# Altium footprint library bms.PcbLib: 20 footprints (part 1 of 2)
Each footprint in its own frame and in the unit in brackets; x right, y up, seen from the top. Pads: shape width x height; smd on the part's side, far side on the other; paste and mask are expansions set on the pad; w line width, h text height; cw(c..) or ccw(c..) is an arc to the next point about the centre after c.
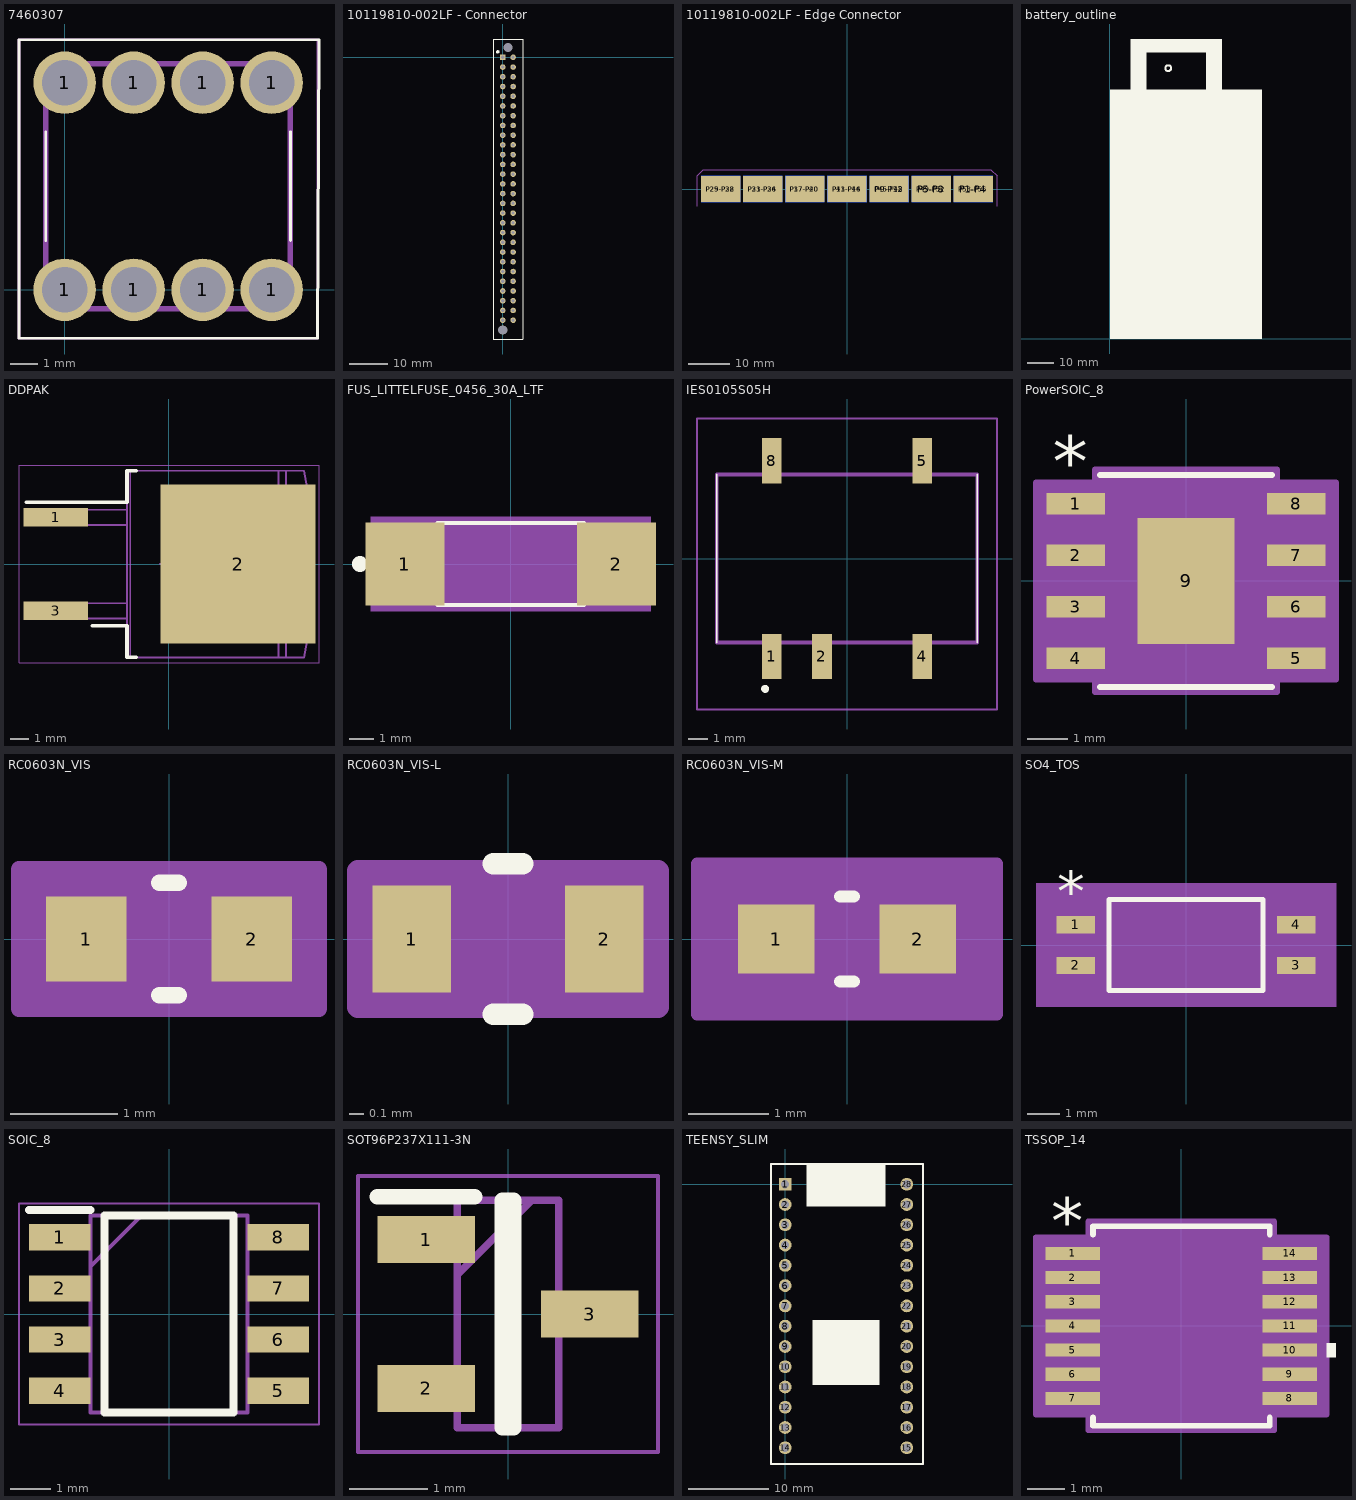
[diagram p0: the footprints below, top view; thin cyan lines are the x and y axes]

## 7460307 [mm]
pads (8):
  round 2.3 hole 1.675: 1(0,0) 1(0,7.62) 1(2.54,0) 1(2.54,7.62) 1(5.08,0) 1(5.08,7.62) 1(7.62,0) 1(7.62,7.62)
Top Overlay:
  lines w0.1: -0.69,1.81 -0.69,5.81 ; 8.31,1.81 8.31,5.81 ; -1.676,-1.778 9.309,-1.778 9.361,9.195 -1.676,9.195 -1.676,-1.778
Mechanical 13:
  lines w0.2: -0.69,-0.69 8.31,-0.69 8.31,8.31 -0.69,8.31 -0.69,-0.69
Mechanical 15:
  lines w0.1: -1.676,-1.778 9.313,-1.778 9.313,9.195 -1.676,9.195 -1.676,-1.778
3D body "7460307_Download_STP_7460307_rev1.stp": height 7, standoff -3.5, extent -0.69,-0.69 8.31,8.31

## 10119810-002LF - Connector [mm]
pads (58):
  round 0 hole 2.4 unplated: M1(1.35,2.54) M2(0,-71.12)
  rect 1.45x1.45 hole 0.85: P1(0,0)
  round 1.45 hole 0.85: P2(0,-2.54) P3(0,-5.08) P4(0,-7.62) P5(0,-10.16) P6(0,-12.7) P7(0,-15.24) P8(0,-17.78) P9(0,-20.32) P10(0,-22.86) P11(0,-25.4) P12(0,-27.94) P13(0,-30.48) P14(0,-33.02) P15(0,-35.56) P16(0,-38.1) P17(0,-40.64) P18(0,-43.18) P19(0,-45.72) P20(0,-48.26) P21(0,-50.8) P22(0,-53.34) P23(0,-55.88) P24(0,-58.42) P25(0,-60.96) P26(0,-63.5) P27(0,-66.04) P28(0,-68.58) P29(2.7,-68.58) P30(2.7,-66.04) P31(2.7,-63.5) P32(2.7,-60.96) P33(2.7,-58.42) P34(2.7,-55.88) P35(2.7,-53.34) P36(2.7,-50.8) P37(2.7,-48.26) P38(2.7,-45.72) P39(2.7,-43.18) P40(2.7,-40.64) P41(2.7,-38.1) P42(2.7,-35.56) P43(2.7,-33.02) P44(2.7,-30.48) P45(2.7,-27.94) P46(2.7,-25.4) P47(2.7,-22.86) P48(2.7,-20.32) P49(2.7,-17.78) P50(2.7,-15.24) P51(2.7,-12.7) P52(2.7,-10.16) P53(2.7,-7.62) P54(2.7,-5.08) P55(2.7,-2.54) P56(2.7,0)
Top Overlay:
  circle w0.762: c-1.295,1.448 r0.072
  lines w0.2: -2.54,-73.482 5.283,-73.482 5.283,4.775 -2.54,4.775 -2.54,-73.482
3D body "10119810-002lf.stp": height 15.69, standoff -3.8, extent -2.235,-73.128 5.015,4.572

## 10119810-002LF - Edge Connector [mm]
pads (14):
  rect 9.46x6.3 smd: P1-P4(30.48,0) P5-P8(20.32,0) P9-P12(10.16,0) P13-P16(0,0) P17-P20(-10.16,0) P21-P24(-20.32,0) P25-P28(-30.48,0)
  rect 9.46x6.3 smd far side: P29-P32(-30.48,0) P33-P36(-20.32,0) P37-P40(-10.16,0) P41-P44(0,0) P45-P48(10.16,0) P49-P52(20.32,0) P53-P56(30.48,0)
Mechanical 1:
  lines w0.2: -36.2,-4.15 -36.2,3.15 ; 36.2,-4.15 36.2,3.15 ; -36.2,3.15 -34.7,4.65 ; -36.2,3.15 -34.7,4.65 ; -34.7,4.65 34.7,4.65 ; 34.7,4.65 36.2,3.15 ; 34.7,4.65 36.2,3.15

## battery_outline [mm]
Top Overlay:
  circle w0.762: c22,102 r1.1
  rectangle: 7.8,108 42.3,113
  rectangle: 36.3,94 42.3,108
  rectangle: 7.8,94 13.8,108
  rectangle: 0,0 57.4,94

## DDPAK [mm]
pads (3):
  rect 3.5x1 smd: 1(-6.15,2.54) 3(-6.15,-2.54)
  rect 8.4x8.65 smd: 2(3.75,0)
Top Overlay:
  lines w0.2: -7.75,3.35 -2.281,3.35 -2.281,5.071 -1.775,5.071 ; -4.175,-3.35 -2.281,-3.35 -2.281,-5.071 -1.775,-5.071
Top Paste:
  drawing of 42 lines, arcs and shapes, not listed
Mechanical 13:
  lines w0.1: -2.103,-5.089 -2.103,5.071 ; -2.103,-5.089 5.95,-5.089 ; -2.103,-5.089 -2.281,-5.089 -2.281,5.071 -2.103,5.071 ; -2.103,5.071 5.95,5.071 ; 5.95,-5.089 6.355,-5.089 ; 5.95,-5.089 5.95,5.071 ; 5.95,5.071 6.355,5.071 ; 6.355,-5.089 6.355,-3.565 ; 6.355,-5.089 7.334,-5.089 7.625,-3.438 7.625,3.42 7.334,5.071 6.355,5.071 ; 6.355,-5.089 6.355,-3.565 ; 6.355,-3.565 6.355,3.547 ; 6.355,3.547 6.355,5.071 ; 6.355,3.547 6.355,5.071 ; -6.675,-2.968 -5.811,-2.968 -5.06,-2.968 -4.852,-2.968 -3.651,-2.968 -2.281,-2.968 -2.281,-2.13 -3.651,-2.13 -4.852,-2.13 -5.06,-2.13 -5.811,-2.13 -6.675,-2.13 -6.675,-2.968 ; -6.675,2.112 -5.811,2.112 -5.06,2.112 -4.852,2.112 -3.651,2.112 -2.281,2.112 -2.281,2.95 -3.651,2.95 -4.852,2.95 -5.06,2.95 -5.811,2.95 -6.675,2.95 -6.675,2.112
Mechanical 15:
  lines w0.05: -8.15,-5.375 8.15,-5.375 8.15,5.375 -8.15,5.375 -8.15,-5.375
  lines w0.1: -0.5,0 0.5,0 ; 0,-0.5 0,0.5
3D body "CSD19536KTT.STEP": height 4.65, standoff -0.15, extent -7.175,-5.08 7.176,5.08
3D body: height 0.25, standoff 0, extent 0,0 0.254,0.254

## FUS_LITTELFUSE_0456_30A_LTF [mm]
pads (2):
  rect 3.25x3.43 smd: 1(-4.366,0) 2(4.366,0)
Top Overlay:
  circle w0.5: c-6.23,0 r0.076
  lines w0.152: -3.033,-1.689 3.033,-1.689 ; -3.033,1.689 3.033,1.689
Mechanical 5:
  region: 5.773,-1.943 -5.773,-1.943 -5.773,1.943 5.773,1.943
Mechanical 13:
  circle w0: c-4.788,0 r0.076
  lines w0.025: -5.042,-1.562 -5.042,1.562 ; -5.042,-1.562 5.042,-1.562 ; -5.042,-1.562 -3.34,-1.562 -3.34,1.562 -5.042,1.562 ; -5.042,-1.562 -5.042,1.562 ; -5.042,1.562 5.042,1.562 ; 5.042,-1.562 5.042,1.562 ; 5.042,-1.562 5.042,1.562 ; 5.042,-1.562 3.34,-1.562 3.34,1.562 5.042,1.562
Mechanical 15:
  region: 5.646,-1.816 -5.646,-1.816 -5.646,1.816 5.646,1.816
  lines w0.152: -5.646,-1.816 5.646,-1.816 5.646,1.816 -5.646,1.816 -5.646,-1.816
3D body "FUS_LITTELFUSE_0456_30A_LTF.step": height 3.12, standoff 0, extent -5.055,-1.587 5.029,1.537
3D body: height 0.25, standoff 0, extent 0,0 0.254,0.254

## IES0105S05H [mm]
pads (5):
  rect 1x2.29 smd: 1(-3.81,-4.955) 2(-1.27,-4.955) 4(3.81,-4.955) 5(3.81,4.955) 8(-3.81,4.955)
Top Overlay:
  lines w0.1: -6.6,-4.25 -6.6,4.25 ; 6.6,-4.25 6.6,4.25
  lines w0.3: -4.2,-6.6 ccw(c-4.15,-6.6) -4.1,-6.6 ccw(c-4.15,-6.6) -4.2,-6.6
Mechanical 13:
  lines w0.2: -6.6,-4.25 6.6,-4.25 6.6,4.25 -6.6,4.25 -6.6,-4.25
Mechanical 15:
  lines w0.1: -7.6,-7.65 7.6,-7.65 7.6,7.1 -7.6,7.1 -7.6,-7.65
3D body "IES0105S05-H.stp": height 7.45, standoff 0, extent -6.6,-6 6.6,6

## PowerSOIC_8 [mm]
pads (9):
  rect 1.455x0.533 smd: 1(-2.721,1.905) 2(-2.721,0.635) 3(-2.721,-0.635) 4(-2.721,-1.905) 5(2.721,-1.905) 6(2.721,-0.635) 7(2.721,0.635) 8(2.721,1.905)
  rect 2.4x3.1 smd: 9(0,0)
Top Overlay:
  lines w0.152: -2.121,-2.616 2.121,-2.616 ; -2.121,2.616 2.121,2.616
  text "*" at -3.293,2.311 h1.27
Mechanical 13:
  lines w0: -0.305,2.489 ccw(c0,2.489) 0.305,2.489
  lines w0.025: -3.099,-2.146 -1.994,-2.146 -1.994,-1.664 -3.099,-1.664 -3.099,-2.146 ; -3.099,-0.876 -1.994,-0.876 -1.994,-0.394 -3.099,-0.394 -3.099,-0.876 ; -3.099,0.394 -1.994,0.394 -1.994,0.876 -3.099,0.876 -3.099,0.394 ; -3.099,1.664 -1.994,1.664 -1.994,2.146 -3.099,2.146 -3.099,1.664 ; -1.994,-2.489 -1.994,2.489 1.994,2.489 1.994,-2.489 -1.994,-2.489 ; 1.994,-2.146 3.099,-2.146 3.099,-1.664 1.994,-1.664 1.994,-2.146 ; 1.994,-0.876 3.099,-0.876 3.099,-0.394 1.994,-0.394 1.994,-0.876 ; 1.994,0.394 3.099,0.394 3.099,0.876 1.994,0.876 1.994,0.394 ; 1.994,1.664 3.099,1.664 3.099,2.146 1.994,2.146 1.994,1.664
  text "*" at -1.93,1.143 h1.27
Mechanical 15:
  region: -2.248,-2.425 -3.703,-2.425 -3.703,2.425 -2.248,2.425 -2.248,2.743 2.248,2.743 2.248,2.425 3.703,2.425 3.703,-2.425 2.248,-2.425 2.248,-2.743 -2.248,-2.743
  lines w0.152: -3.703,-2.425 -2.248,-2.425 -2.248,-2.743 2.248,-2.743 2.248,-2.425 3.703,-2.425 3.703,2.425 2.248,2.425 2.248,2.743 -2.248,2.743 -2.248,2.425 -3.703,2.425 -3.703,-2.425
3D body "DDA0008E.stp": height 1.57, standoff 0, extent -3,-2.45 3,2.45
3D body: height 0.25, standoff 0, extent 0,0 0.254,0.254

## RC0603N_VIS [mm]
pads (2):
  rect 0.75x0.8 smd paste+0 mask+0: 1(-0.775,0) 2(0.775,0)
Top Overlay:
  lines w0.152: -0.092,-0.527 0.092,-0.527 ; -0.092,0.527 0.092,0.527
Mechanical 13:
  lines w0.025: -0.8,-0.4 -0.8,0.4 ; -0.8,-0.4 0.8,-0.4 ; -0.8,-0.4 -0.4,-0.4 -0.4,0.4 -0.8,0.4 ; -0.8,-0.4 -0.8,0.4 ; -0.8,0.4 0.8,0.4 ; 0.8,-0.4 0.8,0.4 ; 0.8,-0.4 0.8,0.4 ; 0.8,-0.4 0.4,-0.4 0.4,0.4 0.8,0.4
Mechanical 15:
  region: 1.404,-0.654 -1.404,-0.654 -1.404,0.654 1.404,0.654
  lines w0.152: -1.404,-0.654 1.404,-0.654 1.404,0.654 -1.404,0.654 -1.404,-0.654
3D body "RC0603N_VIS.step": height 0.71, standoff 0, extent -0.8,-0.4 0.8,0.4
3D body: height 0.25, standoff 0, extent 0,0 0.254,0.254

## RC0603N_VIS-L [mm]
pads (2):
  rect 0.55x0.75 smd paste+0 mask+0: 1(-0.675,0) 2(0.675,0)
Top Overlay:
  lines w0.152: -0.104,-0.527 0.104,-0.527 ; -0.104,0.527 0.104,0.527
Mechanical 13:
  lines w0.025: -0.8,-0.4 -0.8,0.4 ; -0.8,-0.4 -0.4,-0.4 -0.4,0.4 -0.8,0.4 ; -0.8,-0.4 0.8,-0.4 ; -0.8,-0.4 -0.8,0.4 ; -0.8,0.4 0.8,0.4 ; 0.8,-0.4 0.4,-0.4 0.4,0.4 0.8,0.4 ; 0.8,-0.4 0.8,0.4 ; 0.8,-0.4 0.8,0.4
Mechanical 15:
  region: 1.052,-0.477 -1.052,-0.477 -1.052,0.477 1.052,0.477
  lines w0.152: -1.052,-0.477 -1.052,0.477 1.052,0.477 1.052,-0.477 -1.052,-0.477
3D body: height 0.25, standoff 0, extent 0,0 0.254,0.254
3D body "RC0603N_VIS-L.step": height 0.71, standoff 0, extent -0.8,-0.4 0.8,0.4

## RC0603N_VIS-M [mm]
pads (2):
  rect 0.95x0.85 smd paste+0 mask+0: 1(-0.875,0) 2(0.875,0)
Top Overlay:
  lines w0.152: -0.083,-0.527 0.083,-0.527 ; -0.083,0.527 0.083,0.527
Mechanical 13:
  lines w0.025: -0.8,-0.4 -0.8,0.4 ; -0.8,-0.4 0.8,-0.4 ; -0.8,-0.4 -0.4,-0.4 -0.4,0.4 -0.8,0.4 ; -0.8,-0.4 -0.8,0.4 ; -0.8,0.4 0.8,0.4 ; 0.8,-0.4 0.8,0.4 ; 0.8,-0.4 0.8,0.4 ; 0.8,-0.4 0.4,-0.4 0.4,0.4 0.8,0.4
Mechanical 15:
  region: 1.858,-0.933 -1.858,-0.933 -1.858,0.933 1.858,0.933
  lines w0.152: -1.858,-0.933 1.858,-0.933 1.858,0.933 -1.858,0.933 -1.858,-0.933
3D body: height 0.25, standoff 0, extent 0,0 0.254,0.254
3D body "RC0603N_VIS-M.step": height 0.71, standoff 0, extent -0.8,-0.4 0.8,0.4

## SO4_TOS [mm]
pads (4):
  rect 1.208x0.533 smd: 1(-3.446,0.635) 2(-3.446,-0.635) 3(3.446,-0.635) 4(3.446,0.635)
Top Overlay:
  lines w0.152: -2.4,-1.422 2.4,-1.422 2.4,1.422 -2.4,1.422 -2.4,-1.422
  text "*" at -4.018,1.041 h1.27
Mechanical 5:
  region: 4.685,-1.93 -4.685,-1.93 -4.685,1.93 4.685,1.93
Mechanical 13:
  lines w0: -0.305,1.295 ccw(c0,1.295) 0.305,1.295
  lines w0.025: -3.7,-0.876 -3.7,-0.394 -2.273,-0.394 -2.273,-0.876 -3.7,-0.876 ; -3.7,0.394 -3.7,0.876 -2.273,0.876 -2.273,0.394 -3.7,0.394 ; -2.273,-1.295 2.273,-1.295 2.273,1.295 -2.273,1.295 -2.273,-1.295 ; 2.273,-0.876 2.273,-0.394 3.7,-0.394 3.7,-0.876 2.273,-0.876 ; 2.273,0.394 2.273,0.876 3.7,0.876 3.7,0.394 2.273,0.394
  text "*" at -2.21,-0.051 h1.27
Mechanical 15:
  region: -2.527,-1.155 -4.304,-1.155 -4.304,1.155 -2.527,1.155 -2.527,1.549 2.527,1.549 2.527,1.155 4.304,1.155 4.304,-1.155 2.527,-1.155 2.527,-1.549 -2.527,-1.549
  lines w0.152: -4.304,-1.155 -4.304,1.155 -2.527,1.155 -2.527,1.549 2.527,1.549 2.527,1.155 4.304,1.155 4.304,-1.155 2.527,-1.155 2.527,-1.549 -2.527,-1.549 -2.527,-1.155 -4.304,-1.155
3D body "SO4.STEP": height 2.2, standoff 0, extent -3.5,-1.3 3.5,1.3
3D body: height 0.25, standoff 0, extent 0,0 0.254,0.254

## SOIC_8 [mm]
pads (8):
  rect 1.525x0.65 smd: 1(-2.712,1.905) 2(-2.712,0.635) 3(-2.712,-0.635) 4(-2.712,-1.905) 5(2.712,-1.905) 6(2.712,-0.635) 7(2.712,0.635) 8(2.712,1.905)
Top Overlay:
  lines w0.2: -3.475,2.58 -1.95,2.58 ; -1.6,-2.45 -1.6,2.45 1.6,2.45 1.6,-2.45 -1.6,-2.45
Mechanical 13:
  lines w0.1: -1.95,1.18 -0.68,2.45 ; -1.95,-2.45 -1.95,2.45 1.95,2.45 1.95,-2.45 -1.95,-2.45
Mechanical 15:
  lines w0.05: -3.725,-2.75 -3.725,2.75 3.725,2.75 3.725,-2.75 -3.725,-2.75
3D body "NE555DR.stp": height 1.75, standoff 0, extent -3,-2.45 3,2.45

## SOT96P237X111-3N [mm]
pads (3):
  rect 1.25x0.6 smd: 1(-1.05,0.955) 2(-1.05,-0.955) 3(1.05,0)
Top Overlay:
  lines w0.2: -1.675,1.505 -0.425,1.505 ; -0.075,-1.46 -0.075,1.46 0.075,1.46 0.075,-1.46 -0.075,-1.46
Mechanical 13:
  lines w0.1: -0.65,0.505 0.305,1.46 ; -0.65,-1.46 -0.65,1.46 0.65,1.46 0.65,-1.46 -0.65,-1.46
Mechanical 15:
  lines w0.05: -1.925,-1.77 -1.925,1.77 1.925,1.77 1.925,-1.77 -1.925,-1.77
3D body "BSS123.stp": height 1.11, standoff 0, extent -1.185,-1.46 1.185,1.46

## TEENSY_SLIM [mm]
pads (28):
  rect 1.6x1.6 hole 1.02: 1(0,0)
  round 1.6 hole 1.02: 2(0,-2.54) 3(0,-5.08) 4(0,-7.62) 5(0,-10.16) 6(0,-12.7) 7(0,-15.24) 8(0,-17.78) 9(0,-20.32) 10(0,-22.86) 11(0,-25.4) 12(0,-27.94) 13(0,-30.48) 14(0,-33.02) 15(15.24,-33.02) 16(15.24,-30.48) 17(15.24,-27.94) 18(15.24,-25.4) 19(15.24,-22.86) 20(15.24,-20.32) 21(15.24,-17.78) 22(15.24,-15.24) 23(15.24,-12.7) 24(15.24,-10.16) 25(15.24,-7.62) 26(15.24,-5.08) 27(15.24,-2.54) 28(15.24,0)
Top Overlay:
  rectangle: 2.667,-2.794 12.573,2.54
  rectangle: 3.429,-25.146 11.811,-17.018
  lines w0.254: -1.778,-35.052 17.272,-35.052 17.272,2.54 -1.778,2.54 -1.778,-35.052
Mechanical 5:
  lines w0.254: -1.778,-35.052 -1.778,2.54 17.272,2.54 17.272,-35.052 -1.778,-35.052
3D body "Teensy3.2.STEP": height 7.56, standoff -6, extent -1.194,-34.239 16.586,2.021

## TSSOP_14 [mil]
pads (14):
  rect 57.56x13.97 smd: 1(-115,76.77) 2(-115,51.18) 3(-115,25.59) 4(-115,0) 5(-115,-25.59) 6(-115,-51.18) 7(-115,-76.77) 8(115,-76.77) 9(115,-51.18) 10(115,-25.59) 11(115,0) 12(115,25.59) 13(115,51.18) 14(115,76.77)
Top Overlay:
  region: 153.78,-18.09 163.78,-18.09 163.78,-33.09 153.78,-33.09
  lines w6: -93.5,-96.86 -93.5,-105.5 93.5,-105.5 93.5,-96.86 ; -93.5,96.86 -93.5,105.5 93.5,105.5 93.5,96.86
  text "*" at -137.5,85.74 h50
Mechanical 13:
  lines w0: -12,100.5 ccw(c0,100.5) 12,100.5
  lines w1: -130,-82.77 -88.5,-82.77 -88.5,-70.77 -130,-70.77 -130,-82.77 ; -130,-57.18 -88.5,-57.18 -88.5,-45.18 -130,-45.18 -130,-57.18 ; -130,-31.59 -88.5,-31.59 -88.5,-19.59 -130,-19.59 -130,-31.59 ; -130,-6 -88.5,-6 -88.5,6 -130,6 -130,-6 ; -130,19.59 -88.5,19.59 -88.5,31.59 -130,31.59 -130,19.59 ; -130,45.18 -88.5,45.18 -88.5,57.18 -130,57.18 -130,45.18 ; -130,70.77 -88.5,70.77 -88.5,82.77 -130,82.77 -130,70.77 ; -88.5,-100.5 -88.5,100.5 88.5,100.5 88.5,-100.5 -88.5,-100.5 ; 88.5,-82.77 130,-82.77 130,-70.77 88.5,-70.77 88.5,-82.77 ; 88.5,-57.18 130,-57.18 130,-45.18 88.5,-45.18 88.5,-57.18 ; 88.5,-31.59 130,-31.59 130,-19.59 88.5,-19.59 88.5,-31.59 ; 88.5,-6 130,-6 130,6 88.5,6 88.5,-6 ; 88.5,19.59 130,19.59 130,31.59 88.5,31.59 88.5,19.59 ; 88.5,45.18 130,45.18 130,57.18 88.5,57.18 88.5,45.18 ; 88.5,70.77 130,70.77 130,82.77 88.5,82.77 88.5,70.77
  text "*" at -137.8,86.61 h50
Mechanical 15:
  region: -98.5,-93.76 -153.78,-93.76 -153.78,93.76 -98.5,93.76 -98.5,110.5 98.5,110.5 98.5,93.76 153.78,93.76 153.78,-93.76 98.5,-93.76 98.5,-110.5 -98.5,-110.5
  lines w6: -153.78,-93.76 -98.5,-93.76 -98.5,-110.5 98.5,-110.5 98.5,-93.76 153.78,-93.76 153.78,93.76 98.5,93.76 98.5,110.5 -98.5,110.5 -98.5,93.76 -153.78,93.76 -153.78,-93.76
3D body: height 10, standoff 0, extent 0,0 10,10
3D body "PW14_TEX.step": height 47.09, standoff 0, extent -129.99,-100.51 130.01,100.52